# Altium schematic symbol library SCH - MCU - STM32 - ST MICROELECTRONICS STM32WBA52CGUX UFQFPN48.SchLib: 1 symbol
Pins are listed as number, name and electrical type; pins without a type are passive.

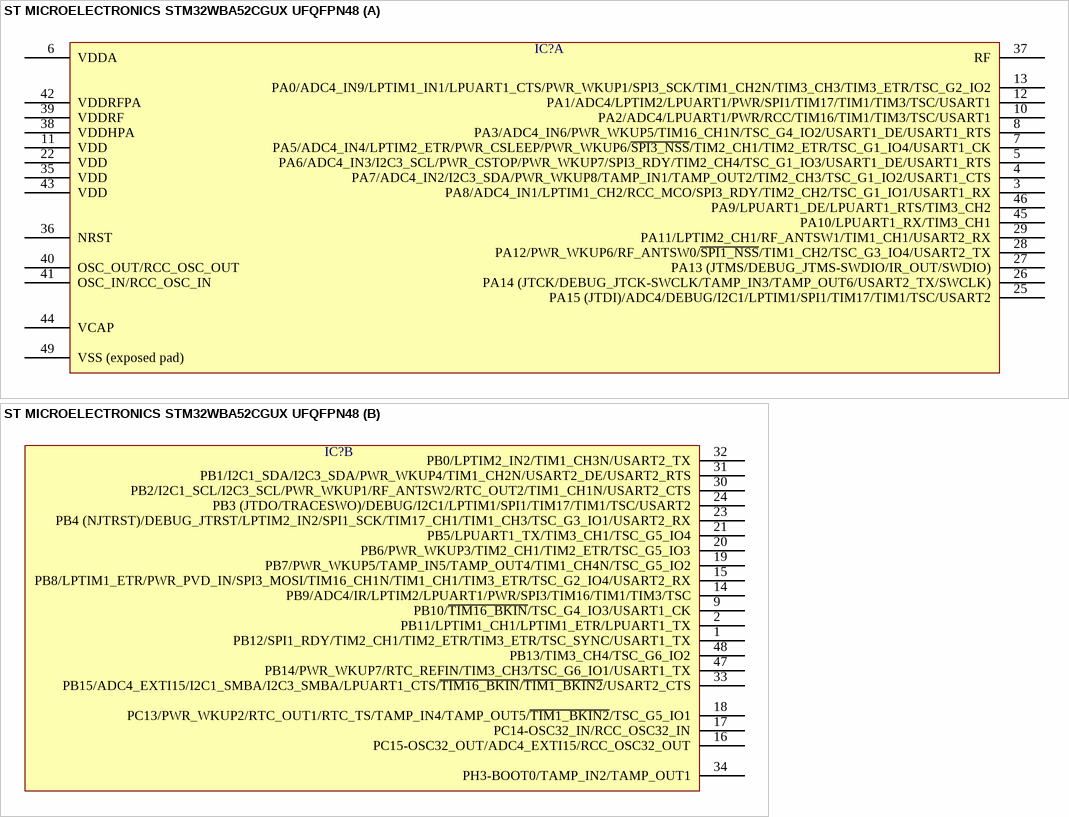
[diagram p0: symbol ST MICROELECTRONICS STM32WBA52CGUX UFQFPN48]

## ST MICROELECTRONICS STM32WBA52CGUX UFQFPN48
designator IC?  (value not drawn)
part A pins: 3 PA8/ADC4_IN1/LPTIM1_CH2/RCC_MCO/SPI3_RDY/TIM2_CH2/TSC_G1_IO1/USART1_RX, 4 PA7/ADC4_IN2/I2C3_SDA/PWR_WKUP8/TAMP_IN1/TAMP_OUT2/TIM2_CH3/TSC_G1_IO2/USART1_CTS, 5 PA6/ADC4_IN3/I2C3_SCL/PWR_CSTOP/PWR_WKUP7/SPI3_RDY/TIM2_CH4/TSC_G1_IO3/USART1_DE/USART1_RTS, 6 VDDA, 7 PA5/ADC4_IN4/LPTIM2_ETR/PWR_CSLEEP/PWR_WKUP6/~{SPI3_NSS}/TIM2_CH1/TIM2_ETR/TSC_G1_IO4/USART1_CK, 8 PA3/ADC4_IN6/PWR_WKUP5/TIM16_CH1N/TSC_G4_IO2/USART1_DE/USART1_RTS, 10 PA2/ADC4/LPUART1/PWR/RCC/TIM16/TIM1/TIM3/TSC/USART1, 11 VDD, 12 PA1/ADC4/LPTIM2/LPUART1/PWR/SPI1/TIM17/TIM1/TIM3/TSC/USART1, 13 PA0/ADC4_IN9/LPTIM1_IN1/LPUART1_CTS/PWR_WKUP1/SPI3_SCK/TIM1_CH2N/TIM3_CH3/TIM3_ETR/TSC_G2_IO2, 22 VDD, 25 PA15 (JTDI)/ADC4/DEBUG/I2C1/LPTIM1/SPI1/TIM17/TIM1/TSC/USART2, 26 PA14 (JTCK/DEBUG_JTCK-SWCLK/TAMP_IN3/TAMP_OUT6/USART2_TX/SWCLK), 27 PA13 (JTMS/DEBUG_JTMS-SWDIO/IR_OUT/SWDIO), 28 PA12/PWR_WKUP6/RF_ANTSW0/~{SPI1_NSS}/TIM1_CH2/TSC_G3_IO4/USART2_TX, 29 PA11/LPTIM2_CH1/RF_ANTSW1/TIM1_CH1/USART2_RX, 35 VDD, 36 NRST, 37 RF, 38 VDDHPA, 39 VDDRF, 40 OSC_OUT/RCC_OSC_OUT, 41 OSC_IN/RCC_OSC_IN, 42 VDDRFPA, 43 VDD, 44 VCAP, 45 PA10/LPUART1_RX/TIM3_CH1, 46 PA9/LPUART1_DE/LPUART1_RTS/TIM3_CH2, 49 VSS (exposed pad)
part B pins: 1 PB12/SPI1_RDY/TIM2_CH1/TIM2_ETR/TIM3_ETR/TSC_SYNC/USART1_TX, 2 PB11/LPTIM1_CH1/LPTIM1_ETR/LPUART1_TX, 9 PB10/~{TIM16_BKIN}/TSC_G4_IO3/USART1_CK, 14 PB9/ADC4/IR/LPTIM2/LPUART1/PWR/SPI3/TIM16/TIM1/TIM3/TSC, 15 PB8/LPTIM1_ETR/PWR_PVD_IN/SPI3_MOSI/TIM16_CH1N/TIM1_CH1/TIM3_ETR/TSC_G2_IO4/USART2_RX, 16 PC15-OSC32_OUT/ADC4_EXTI15/RCC_OSC32_OUT, 17 PC14-OSC32_IN/RCC_OSC32_IN, 18 PC13/PWR_WKUP2/RTC_OUT1/RTC_TS/TAMP_IN4/TAMP_OUT5/~{TIM1_BKIN2}/TSC_G5_IO1, 19 PB7/PWR_WKUP5/TAMP_IN5/TAMP_OUT4/TIM1_CH4N/TSC_G5_IO2, 20 PB6/PWR_WKUP3/TIM2_CH1/TIM2_ETR/TSC_G5_IO3, 21 PB5/LPUART1_TX/TIM3_CH1/TSC_G5_IO4, 23 PB4 (NJTRST)/DEBUG_JTRST/LPTIM2_IN2/SPI1_SCK/TIM17_CH1/TIM1_CH3/TSC_G3_IO1/USART2_RX, 24 PB3 (JTDO/TRACESWO)/DEBUG/I2C1/LPTIM1/SPI1/TIM17/TIM1/TSC/USART2, 30 PB2/I2C1_SCL/I2C3_SCL/PWR_WKUP1/RF_ANTSW2/RTC_OUT2/TIM1_CH1N/USART2_CTS, 31 PB1/I2C1_SDA/I2C3_SDA/PWR_WKUP4/TIM1_CH2N/USART2_DE/USART2_RTS, 32 PB0/LPTIM2_IN2/TIM1_CH3N/USART2_TX, 33 PB15/ADC4_EXTI15/I2C1_SMBA/I2C3_SMBA/LPUART1_CTS/~{TIM16_BKIN}/~{TIM1_BKIN2}/USART2_CTS, 34 PH3-BOOT0/TAMP_IN2/TAMP_OUT1, 47 PB14/PWR_WKUP7/RTC_REFIN/TIM3_CH3/TSC_G6_IO1/USART1_TX, 48 PB13/TIM3_CH4/TSC_G6_IO2